# Altium schematic symbol library Reboostv2.SCHLIB: 64 symbols
Pins are listed as number, name and electrical type; pins without a type are passive.

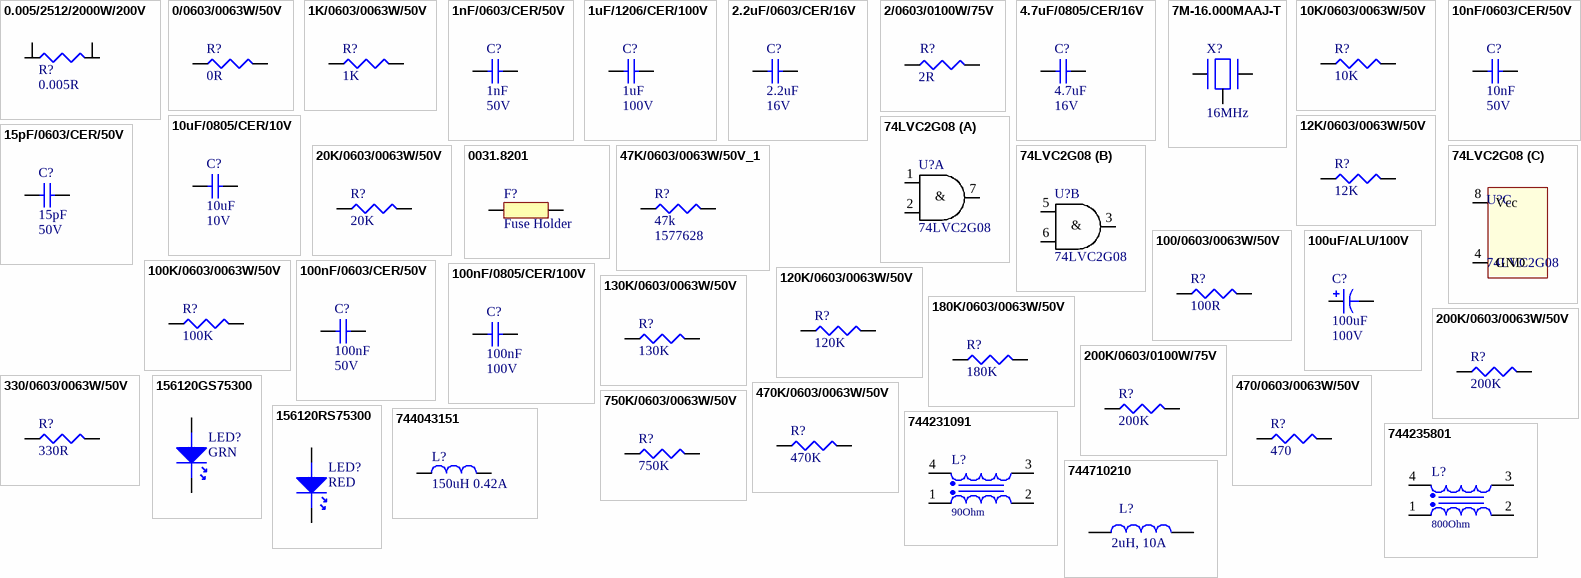
[diagram p0: symbols 0.005/2512/2000W/200V to 744710210]

## 0.005/2512/2000W/200V
designator R?, comment 0.005R
Resistor, 0.005R, 1%, 2W, 50PPM; Brand: OHMITE; Brand Number: FC4L64R005FER; Case Style: 2512; Voltage Rating: 200V; Order Code Supplier: 2363991; Power Rating: 2W; Price: 3,07; Resistance: 0.005R; Supplier: Farnell; Temperature Coefficient: ± 50PPM; Temperature Range: -55°C to +170°C; Manufacturer: OHMITE; Manufacturer Part Number: FC4L64R005FER
footprint 2512-L-4T
pins: 1, 2, 3, 4

## 0/0603/0063W/50V
designator R?, comment 0R
Resistor, 0R, 0.1%, 0.063W, 50V, 200PPM, 0603; Brand: VISHAY DRALORIC; Brand Number: CRCW06030000Z0EA; Case Style: 0603; Order Code Supplier: 2122112; Power Rating: 0.063W; Price: 0,043; Resistance: 0R; Supplier: Farnell; Temperature Coefficient: ± 200PPM; Temperature Range: -55°C to +125°C; Voltage Rating: 50V; Manufacturer: VISHAY DRALORIC; Manufacturer Part Number: CRCW06030000Z0EA
footprint 0603
pins: 1, 2

## 1K/0603/0063W/50V
designator R?, comment 1K
Resistor, 1K, 1%, 0.063W, 50V, 100PPM, 0603; Brand: VISHAY DRALORIC; Brand Number: CRCW06031K00FKEA; Case Style: 0603; Order Code Supplier: 2122366; Power Rating: 0.063W; Price: 0,039; Resistance: 1K; Supplier: Farnell; Temperature Coefficient: ± 100PPM; Temperature Range: -55°C to +125°C; Voltage Rating: 50V; Manufacturer: VISHAY DRALORIC; Manufacturer Part Number: CRCW06031K00FKEA
footprint 0603
pins: 1, 2

## 1nF/0603/CER/50V
designator C?, comment 1nF  Voltage Rating: 50V
Capacitor, 1nF, 50V, X7R; Capacitance Tolerance: ± 10%; Capacitor Case Style: 0603; Brand Number: C0603C102K5RACTU; Brand: KEMET; Dielectric Characteristic: X7R; Capacitance: 1nF; Temperature Range: -55°C to +125°C; Price: 0,011; Order Code Supplier: 1414608; Supplier: Farnell; Manufacturer: KEMET; Manufacturer Part Number: C0603C102K5RACTU
footprint C0603
pins: 1, 2

## 1uF/1206/CER/100V
designator C?, comment 1uF  Voltage Rating: 100V
Capacitor, 1uF, 100V, X7R; Capacitance Tolerance: ± 10%; Capacitor Case Style: 1206; Brand Number: 12061C105K4Z2A; Brand: AVX; Dielectric Characteristic: X7R; Capacitance: 1uF; Temperature Range: -55°C to +125°C; Price: 0,52; Order Code Supplier: 1833855; Supplier: Farnell; Manufacturer: AVX; Manufacturer Part Number: 12061C105K4Z2A
footprint C-1206
pins: 1, 2

## 2.2uF/0603/CER/16V
designator C?, comment 2.2uF  Voltage Rating: 16V
Capacitor, 2.2uF, 16V, X5R; Capacitance Tolerance: +/- 10%; Capacitor Case Style: 0603; Brand Number: GRM188R61C225KE15D; Brand: MURATA; Dielectric Characteristic: X5R; Capacitance: 2.2uF; Temperature Range: -55°C to 85°C; Price: 0,077; Order Code Supplier: 1735526; Supplier: Farnell; Manufacturer: MURATA; Manufacturer Part Number: GRM188R61C225KE15D
footprint C0603
pins: 1, 2

## 2/0603/0100W/75V
designator R?, comment 2R
Resistor, 2R, 5%, 0.1W, 75V, 200PPM, 0603; Brand: PANASONIC; Brand Number: ERJ3GEYJ2R0V; Case Style: 0603; Order Code Supplier: 2059531; Power Rating: 0.1W; Price: 0,009; Resistance: 2R; Supplier: Farnell; Temperature Coefficient: ± 200PPM; Temperature Range: -55°C to +125°C; Voltage Rating: 75V; Manufacturer: PANASONIC; Manufacturer Part Number: ERJ3GEYJ2R0V
footprint 0603
pins: 1, 2

## 4.7uF/0805/CER/16V
designator C?, comment 4.7uF  Voltage Rating: 16V
Capacitor, 4.7uF, 16V, X7R; Capacitance Tolerance: ± 10%; Capacitor Case Style: 0805; Brand Number: GRM21BR71C475KA73L; Brand: MURATA; Dielectric Characteristic: X7R; Capacitance: 4.7uF; Temperature Range: -55°C to +125°C; Price: 0,26; Order Code Supplier: 1797015; Supplier: Farnell; Manufacturer: MURATA; Manufacturer Part Number: GRM21BR71C475KA73L
footprint C-0805
pins: 1, 2

## 7M-16.000MAAJ-T
designator X?, comment 16MHz
CRYSTAL, 16MHz,18PF CL, 3.2X2.5MM SMT; Brand Number: 7M-16.000MAAJ-T; Brand: TXC; Order Code Supplier: 1842060; Price: 1,45; Supplier: Farnell; Manufacturer: TXC; Manufacturer Part Number: 7M-16.000MAAJ-T
footprint 7M
pins: 0 (power), 1, 2

## 10K/0603/0063W/50V
designator R?, comment 10K
Resistor, 10K, 1%, 0.063W, 50V, 100PPM, 0603; Brand: VISHAY DRALORIC; Brand Number: CRCW060310K0FKEA; Case Style: 0603; Order Code Supplier: 2122493; Power Rating: 0.063W; Price: 0,038; Resistance: 10K; Supplier: Farnell; Temperature Coefficient: ± 100PPM; Temperature Range: -55°C to +125°C; Voltage Rating: 50V; Manufacturer: VISHAY DRALORIC; Manufacturer Part Number: CRCW060310K0FKEA
footprint 0603
pins: 1, 2

## 10nF/0603/CER/50V
designator C?, comment 10nF  Voltage Rating: 50V
Capacitor, 10nF, 50V, X7R; Capacitance Tolerance: ± 10%; Capacitor Case Style: 0603; Brand Number: C0603C103K5RACTU; Brand: KEMET; Dielectric Characteristic: X7R; Capacitance: 10nF; Temperature Range: -55°C to +125°C; Price: 0,011; Order Code Supplier: 1414609; Supplier: Farnell; Manufacturer: KEMET; Manufacturer Part Number: C0603C103K5RACTU
footprint C0603
pins: 1, 2

## 10uF/0805/CER/10V
designator C?, comment 10uF  Voltage Rating: 10V
Capacitor, 10uF, 10V, X7R; Capacitance Tolerance: ± 10%; Capacitor Case Style: 0805; Brand Number: GRM21BR71A106KE51L; Brand: MURATA; Dielectric Characteristic: X7R; Capacitance: 10uF; Temperature Range: -55°C to +125°C; Price: 0,36; Order Code Supplier: 1828828; Supplier: Farnell; Manufacturer: MURATA; Manufacturer Part Number: GRM21BR71A106KE51L
footprint C-0805
pins: 1, 2

## 12K/0603/0063W/50V
designator R?, comment 12K
Resistor, 12K, 1%, 0.063W, 50V, 100PPM, 0603; Brand: VISHAY DRALORIC; Brand Number: CRCW060312K0FKEA; Case Style: 0603; Order Code Supplier: 2122501; Power Rating: 0.063W; Price: 0,0006; Resistance: 12K; Supplier: Farnell; Temperature Coefficient: ± 1%; Temperature Range: -55°C to +125°C; Voltage Rating: 50V; Manufacturer: VISHAY DRALORIC; Manufacturer Part Number: CRCW060312K0FKEA
footprint 0603
pins: 1, 2

## 15pF/0603/CER/50V
designator C?, comment 15pF  Voltage Rating: 50V
Capacitor, 15pF, 50V, C0G / NP0; Capacitance Tolerance: ± 5%; Capacitor Case Style: 0603; Brand Number: MCCA000194; Brand: MULTICOMP; Dielectric Characteristic: C0G / NP0; Capacitance: 15pF; Temperature Range: -55°C to +125°C; Price: 0,009; Order Code Supplier: 1759055; Supplier: Farnell; Manufacturer: MULTICOMP; Manufacturer Part Number: MCCA000194
footprint C0603
pins: 1, 2

## 20K/0603/0063W/50V
designator R?, comment 20K
Resistor, 20K, 1%, 0.063W, 50V, 100PPM, 0603; Brand: VISHAY DRALORIC; Brand Number: CRCW060320K0FKEA; Case Style: 0603; Order Code Supplier: 2122528; Power Rating: 0.063W; Price: 0,038; Resistance: 20K; Supplier: Farnell; Temperature Coefficient: ± 100PPM; Temperature Range: -55°C to +125°C; Voltage Rating: 50V; Manufacturer: VISHAY DRALORIC; Manufacturer Part Number: CRCW060320K0FKEA
footprint 0603
pins: 1, 2

## 0031.8201
designator F?, comment Fuse Holder
Fuse, Holder, 10A, 250V, T:-40°C +85°C; Brand: SCHURTER; Brand Number: 0031.8201; Price: 0,43; Order Code Supplier: 1162740; Supplier: Farnell; Manufacturer: SCHURTER; Manufacturer Part Number: 0031.8201
footprint Fuse5x20TH
pins: 1, 2

## 47K/0603/0063W/50V_1
designator R?, comment 47k  Supplier Part Number 1: 1577628
Resistor, 47K, 0.1%, 0.063W, 50V, 100PPM, 0603; Manufacturer: PANASONIC; Manufacturer Part Number: ERA3AEB473V; Case Style: 0603; Order Code Supplier: ERA3AEB473V; Power Rating: 0.063W; Resistance: 47k; Supplier: Farnell; Temperature Coefficient: ± 100PPM; Temperature Range: -55°C to +125°C; Voltage Rating: 50V; Supplier 1: Farnell
footprint 0603
pins: 1, 2

## 74LVC2G08
designator U?
Dual 2-input AND gate; Manufacturer: Nexperia; Manufacturer Part Number: 74LVC2G08DP,125; Supplier: Mouser; Order Code Supplier: 771-74LVC2G08DP-G
footprint TSSOP8 (TSOP, 8-Leads, Body 3,00x3,00mm, Pitch 0,65mm, IPC Medium Density)
part A pins: 1 A, 2 B, 7 Y
part B pins: 3 Y, 5 A, 6 B
part C pins: 4 GND, 8 Vcc
part A text: &
part B text: &

## 100/0603/0063W/50V
designator R?, comment 100R
Resistor, 100R, 1%, 0.063W, 50V, 200PPM, 0603; Brand: VISHAY DRALORIC; Brand Number: CRCW0603100RFKEA; Case Style: 0603; Order Code Supplier: 2122239; Power Rating: 0.063W; Price: 0,007; Resistance: 100R; Supplier: Farnell; Temperature Coefficient: ± 200PPM; Temperature Range: -55°C to +125°C; Voltage Rating: 50V; Manufacturer: VISHAY DRALORIC; Manufacturer Part Number: CRCW0603100RFKEA
footprint 0603
pins: 1, 2

## 100K/0603/0063W/50V
designator R?, comment 100K
Resistor, 100K, 1%, 0.063W, 50V, 100PPM, 0603; Brand: VISHAY DRALORIC; Brand Number: CRCW0603100KFKEA; Case Style: 0603; Order Code Supplier: 2122619; Power Rating: 0.063W; Price: 0,039; Resistance: 100K; Supplier: Farnell; Temperature Coefficient: ± 100PPM; Temperature Range: -55°C to +125°C; Voltage Rating: 50V; Manufacturer: VISHAY DRALORIC; Manufacturer Part Number: CRCW0603100KFKEA
footprint 0603
pins: 1, 2

## 100nF/0603/CER/50V
designator C?, comment 100nF  Voltage Rating: 50V
Capacitor, 100nF, 50V, X7R; Capacitance Tolerance: ± 10%; Capacitor Case Style: 0603; Brand Number: MCCA000255; Brand: MULTICOMP; Dielectric Characteristic: X7R; Capacitance: 100nF; Temperature Range: -55°C to +125°C; Price: 0,008; Order Code Supplier: 1759122RL; Supplier: Farnell; Manufacturer: MULTICOMP; Manufacturer Part Number: MCCA000255
footprint C0603
pins: 1, 2

## 100nF/0805/CER/100V
designator C?, comment 100nF  Voltage Rating: 100V
Capacitor, 100nF, 100V, X7R; Capacitance Tolerance: ± 10%; Capacitor Case Style: 0805; Brand Number: C0805C104K1RACTU; Brand: KEMET; Dielectric Characteristic: X7R; Capacitance: 100nF; Temperature Range: -55°C to +125°C; Price: 0,096; Order Code Supplier: 1650862; Supplier: Farnell; Manufacturer: KEMET; Manufacturer Part Number: C0805C104K1RACTU
footprint C-0805
pins: 1, 2

## 100uF/ALU/100V
designator C?, comment 100uF  Voltage Rating: 100V
Aluminum Electrolytic Capacitor, 100uF, 100V; Manufacturer: United Chemi-Con; Manufacturer Part Number: EKYB101ELL101MJ20S; Capacitance Tolerance: ± 20%; Capacitor Case Style: Radial Leaded 10 x 20; Dielectric Characteristic: *; Capacitance: 100uF; Temperature Range: -40°C to +85°C; Supplier 1: Mouser; Supplier Part Number 1: 661-EKYB101E101MJ20S
footprint WCAP-ATUL_10x20x5x0.6 (Polarized capacitors, Aluminum Electrolytic Capacitors, 2-Leads, Body 10x20x5x0.6)
pins: 1, 2

## 120K/0603/0063W/50V
designator R?, comment 120K
Resistor, 120K, 1%, 0.063W, 50V, 100PPM, 0603; Brand: VISHAY DRALORIC; Brand Number: CRCW0603120KFKEA; Case Style: 0603; Order Code Supplier: 2122628; Power Rating: 0.063W; Price: 0,038; Resistance: 120K; Supplier: Farnell; Temperature Coefficient: ± 100PPM; Temperature Range: -55°C to +125°C; Voltage Rating: 50V; Manufacturer: VISHAY DRALORIC; Manufacturer Part Number: CRCW0603120KFKEA
footprint 0603
pins: 1, 2

## 130K/0603/0063W/50V
designator R?, comment 130K
Resistor, 130K, 1%, 0.063W, 50V, 100PPM, 0603; Brand: VISHAY DRALORIC; Brand Number: CRCW0603130KFKEA; Case Style: 0603; Order Code Supplier: 2122632; Power Rating: 0.063W; Price: 0,017; Resistance: 130K; Supplier: Farnell; Temperature Coefficient: ± 100PPM; Temperature Range: -55°C to +125°C; Voltage Rating: 50V; Manufacturer: VISHAY DRALORIC; Manufacturer Part Number: CRCW0603130KFKEA
footprint 0603
pins: 1, 2

## 180K/0603/0063W/50V
designator R?, comment 180K
Resistor, 180K, 1%, 0.063W, 50V, 100PPM, 0603; Brand: VISHAY DRALORIC; Brand Number: CRCW0603180KFKEA; Case Style: 0603; Order Code Supplier: 2122648; Power Rating: 0.063W; Price: 0,038; Resistance: 180K; Supplier: Farnell; Temperature Coefficient: ± 100PPM; Temperature Range: -55°C to +125°C; Voltage Rating: 50V; Manufacturer: VISHAY DRALORIC; Manufacturer Part Number: CRCW0603180KFKEA
footprint 0603
pins: 1, 2

## 200K/0603/0063W/50V
designator R?, comment 200K
Resistor, 200K, 1%, 0.063W, 50V, 100PPM, 0603; Brand: VISHAY DRALORIC; Brand Number: CRCW0603200KFKEA; Case Style: 0603; Order Code Supplier: 2122655; Power Rating: 0.063W; Price: 0,038; Resistance: 200K; Supplier: Farnell; Temperature Coefficient: ± 100PPM; Temperature Range: -55°C to +125°C; Voltage Rating: 50V; Manufacturer: VISHAY DRALORIC; Manufacturer Part Number: CRCW0603200KFKEA
footprint 0603
pins: 1, 2

## 200K/0603/0100W/75V
designator R?, comment 200K
Resistor, 200K, 1%, 0.1W, 75V, 100PPM, 0603; Brand: VISHAY DRALORIC; Brand Number: CRCW0603200KFKEA; Case Style: 0603; Order Code Supplier: 2122655; Power Rating: 0.1W; Price: 0,022; Resistance: 200K; Supplier: Farnell; Temperature Coefficient: ± 100PPM; Temperature Range: -55°C to +155°C; Voltage Rating: 75V; Manufacturer: VISHAY DRALORIC; Manufacturer Part Number: CRCW0603200KFKEA
footprint 0603
pins: 1, 2

## 330/0603/0063W/50V
designator R?, comment 330R
Resistor, 330R, 1%, 0.063W, 50V, 100PPM, 0603; Brand: VISHAY DRALORIC; Brand Number: CRCW0603330RFKEA; Case Style: 0603; Order Code Supplier: 2122302; Power Rating: 0.063W; Price: 0,038; Resistance: 330R; Supplier: Farnell; Temperature Coefficient: ± 100PPM; Temperature Range: -55°C to +125°C; Voltage Rating: 50V; Manufacturer: VISHAY DRALORIC; Manufacturer Part Number: CRCW0603330RFKEA
footprint 0603
pins: 1, 2

## 470/0603/0063W/50V
designator R?, comment 470
Resistor, 470, 1%, 0.063W, 50V, 100PPM, 0603; Brand: VISHAY DRALORIC; Brand Number: CRCW0603470RFKEA; Case Style: 0603; Order Code Supplier: 2122323; Power Rating: 0.063W; Price: 0,038; Resistance: 470; Supplier: Farnell; Temperature Coefficient: ± 100PPM; Temperature Range: -55°C to +125°C; Voltage Rating: 50V; Manufacturer: VISHAY DRALORIC; Manufacturer Part Number: CRCW0603470RFKEA
footprint 0603
pins: 1, 2

## 470K/0603/0063W/50V
designator R?, comment 470K
Resistor, 470K, 1%, 0.063W, 50V, 100PPM, 0603; Brand: VISHAY DRALORIC; Brand Number: CRCW0603470KFKEA; Case Style: 0603; Order Code Supplier: 2122703; Power Rating: 0.063W; Price: 0,038; Resistance: 470K; Supplier: Farnell; Temperature Coefficient: ± 100PPM; Temperature Range: -55°C to +125°C; Voltage Rating: 50V; Manufacturer: VISHAY DRALORIC; Manufacturer Part Number: CRCW0603470KFKEA
footprint 0603
pins: 1, 2

## 750K/0603/0063W/50V
designator R?, comment 750K
Resistor, 750K, 1%, 0.063W, 50V, 100PPM, 0603; Brand: VISHAY DRALORIC; Brand Number: CRCW0603750KFKEA; Case Style: 0603; Order Code Supplier: 2122731; Power Rating: 0.063W; Price: 0,038; Resistance: 750K; Supplier: Farnell; Temperature Coefficient: ± 100PPM; Temperature Range: -55°C to +125°C; Voltage Rating: 50V; Manufacturer: VISHAY DRALORIC; Manufacturer Part Number: CRCW0603750KFKEA
footprint 0603
pins: 1, 2

## 156120GS75300
designator LED?, comment GRN
LED, Reverse Mount, Cylindrical, Green; Manufacturer: Wurth Elektronik; Brand: Wurth; Brand Number: 156120GS75300; Order Code Supplier: 2322091; Supplier: Farnell; Price: 0,519; Manufacturer Part Number: 156120GS75300
footprint WL-SMRW_1206 cylindrical_Reverse use (SMD Mono-color Reverse mount LED, body 3.2x1.2mm)
pins: 1 K, 2 A

## 156120RS75300
designator LED?, comment RED
LED, Reverse Mount, Cylindrical, Red; Manufacturer: Wurth Elektronik; Brand: Wurth; Brand Number: 156120RS75300; Order Code Supplier: 2322094; Supplier: Farnell; Price: 0,519; Manufacturer Part Number: 156120RS75300
footprint WL-SMRW_1206 cylindrical_Reverse use (SMD Mono-color Reverse mount LED, body 3.2x1.2mm)
pins: 1 K, 2 A

## 744043151
designator L?, comment 150uH 0.42A
150UH, 30%, 0.42A; Manufacturer: Wurth Elektronik; Brand: Wurth; Brand Number: 744043151; Case Style: WE-TPC 4828; DC Resistance: 0.770ohm; DC Current: 0.42A; Inductance: 150uH; Order Code Supplier: 2082517; Price: 1,36; Q Factor: *; Supplier: Farnell; Temperature Range: -40°C to +125°C; Manufacturer Part Number: 744043151
footprint WE-TPC 4828, MH (SMD Inductor, 2-Leads, Body 4,8x4,8mm)
pins: 1, 2

## 744231091
designator L?, comment 90Ohm
WE-CNSW SMT Common Mode Line Filter, size 0805, 90Ohm, 0.37A, 50V; Manufacturer Part Number: 744231091; Manufacturer: Wurth Elektronik; DC Resistance max.: 0.3Ohm; Impedance Test Condition: 100MHz; Insulation Test Voltage: 125VAC; Winding Style: bifiliar; ComponentLink1Description: Manufacturer; ComponentLink1URL: http://www.we-online.de; ComponentLink2Description: Datasheet; ComponentLink2URL: https://www.we-online.com/catalog/datasheet/744231091.pdf; Operating Temperature: -40 to +125degC; Packaging: Tape and Reel; Published Date: April 2020; Rated Current: 0.37A; Size: 0805; Impedance: 90Ohm; Rated Voltage: 50V; Mounting Technology: SMT
footprint WE-CNSW_0805
pins: 1, 2, 3, 4

## 744235801
designator L?, comment 800Ohm
WE-CNSW SMT Common Mode Line Filter, size 1812, 800Ohm, 1A, 60V; Manufacturer Part Number: 744235801; Manufacturer: Wurth Elektronik; DC Resistance max.: 0.12Ohm; Impedance Test Condition: 100MHz; Insulation Test Voltage: 125VAC; Winding Style: bifiliar; ComponentLink1Description: Manufacturer; ComponentLink1URL: http://www.we-online.de; ComponentLink2Description: Datasheet; ComponentLink2URL: https://www.we-online.com/catalog/datasheet/744235801.pdf; Operating Temperature: -40 to +125degC; Packaging: Tape and Reel; Published Date: April 2020; Rated Current: 1A; Size: 1812; Impedance: 800Ohm; Rated Voltage: 60V; Mounting Technology: SMT
footprint WE-CNSW_1812
pins: 1, 2, 3, 4

## 744710210
designator L?, comment 2uH, 10A
WE-SD Rod Core Choke, 2uH, 10A; Manufacturer Part Number: 744710210; Manufacturer: Wurth Elektronik; DC Resistance: 3.8mOhm; ComponentLink1Description: Manufacturer; ComponentLink1URL: http://www.we-online.de; ComponentLink2Description: Datasheet; ComponentLink2URL: https://www.we-online.com/catalog/datasheet/744710210.pdf; Operating Temperature: -40 to +150degC; Packaging: Carton; Published Date: April 2020; Inductance: 2uH; Mounting Technology: THT; Rated Current: 10A
footprint 744710210
pins: 1, 2

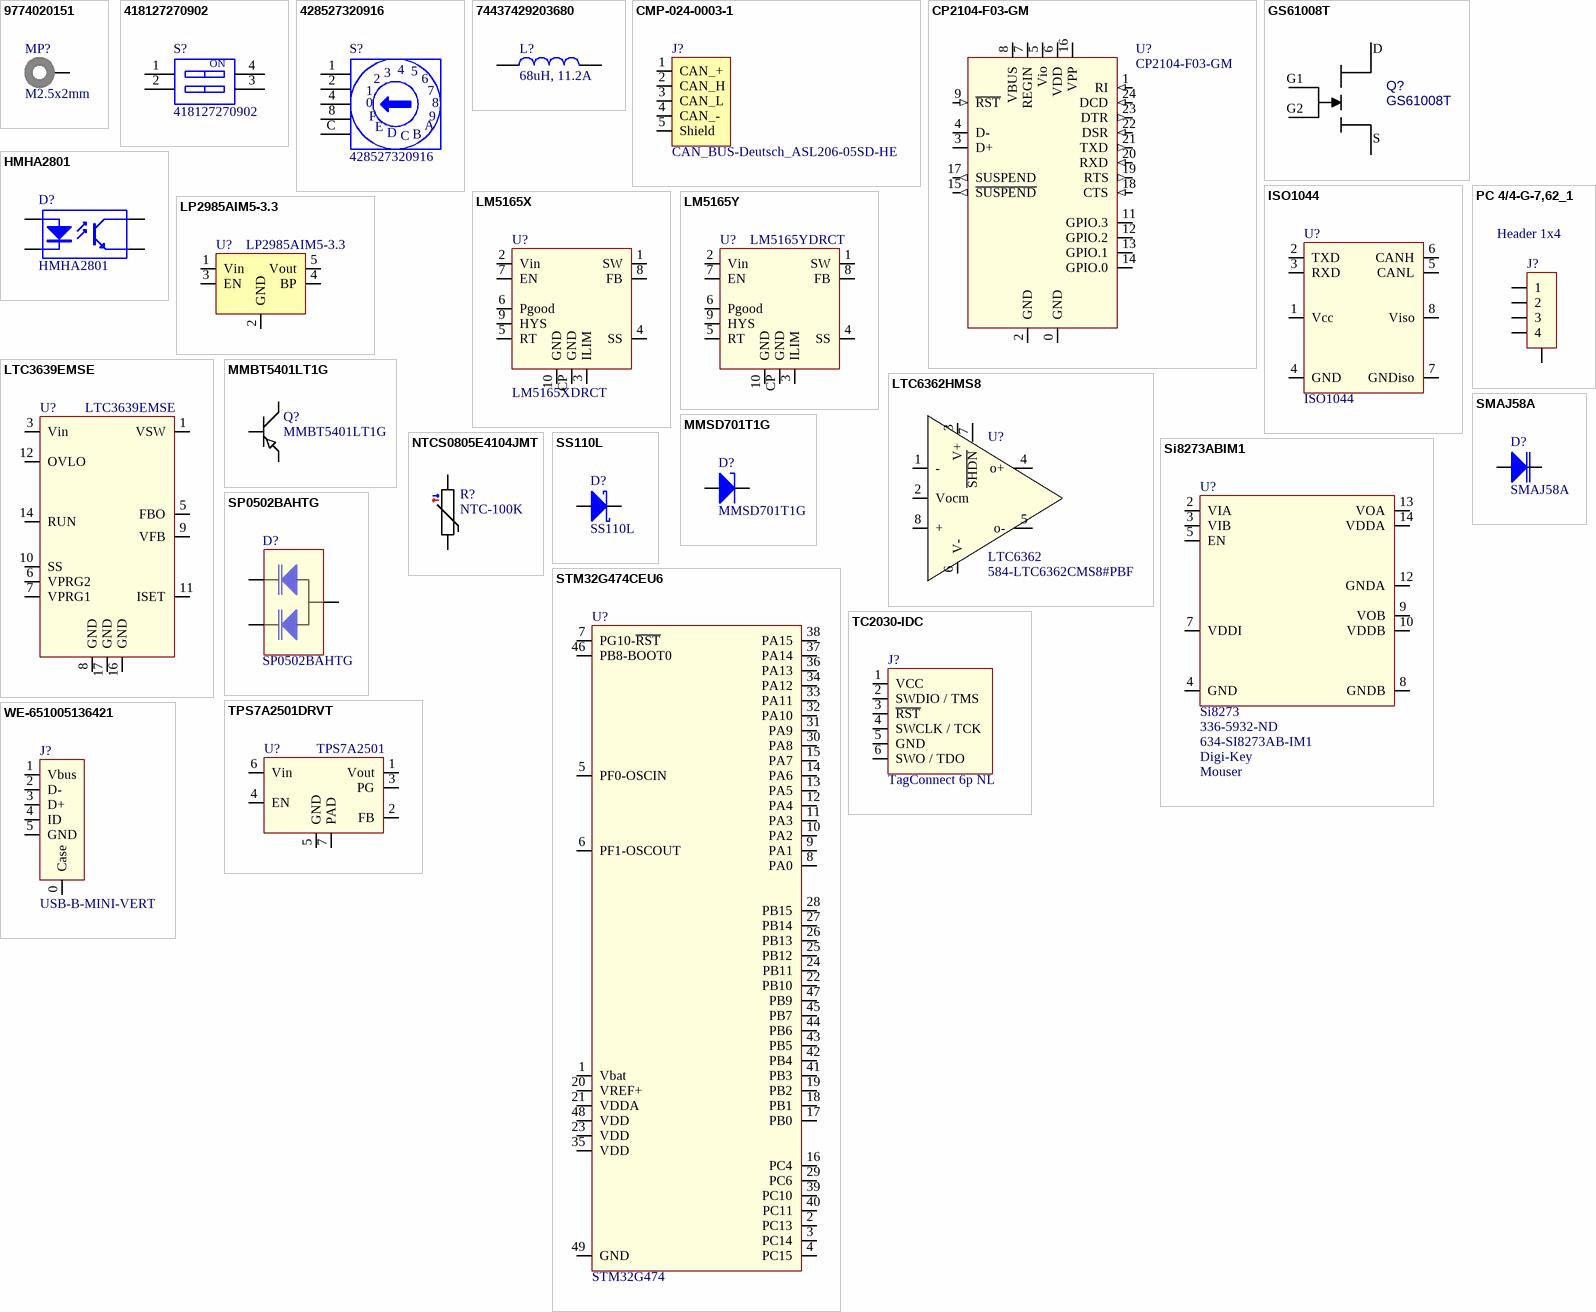
[diagram p1: symbols 9774020151 to WE-651005136421]

## 9774020151
designator MP?, comment M2.5x2mm
WA-SMSI SMT Steel Spacer, M2.5 Thread Internal, OD 5.1mm, M2.5x2mm; Manufacturer Part Number: 9774020151; Manufacturer: Wurth Elektronik; Inner Diameter: 3.5mm; Surface: Tin; ComponentLink1Description: Manufacturer; ComponentLink1URL: http://www.we-online.de; ComponentLink2Description: Datasheet; ComponentLink2URL: https://www.we-online.com/catalog/datasheet/9774020151.pdf; Mounting Technology: SMT; Packaging: Bulk; Length: 2mm; Inner Thread Length: -; Operating Temperature: -55 to +150degC; Outer Diameter: 5.1mm; Published Date: April 2020; Material: Steel; Thread: M2.5
footprint 9774020151
pins: 1, 1

## 418127270902
designator S?
WS-DITV Small Compact THT Dip Switch, Raised Actuator, pitch 2.54mm, 2p; Manufacturer: Wurth Elektronik; Operation Force: 600g; Pole Number: 2; Actuator Type: Raise Type; Circuit: SPST-NO; Rated Current Switching: 25mA; Rated Current Non-Switching: 100mA; Rated Voltage Non-Switching: 50VDC; Rated Voltage Switching: 24VDC; ComponentLink1Description: Manufacturer; ComponentLink1URL: http://www.we-online.de; ComponentLink2Description: Datasheet; ComponentLink2URL: https://katalog.we-online.com/em/datasheet/418127270902.pdf; Pitch: 2.54mm; Contact Material: Copper Alloy; Mounting Technology: THT; Operating Temperature: -40 to +85degC; Contact Plating: Gold; Packaging: Tube; Part Number: 418127270902; Publisher: Wurth Elektronik; Published Date: September 2019; Manufacturer Part Number: 418127270902
footprint 418127270902
pins: 1, 2, 3, 4
text: ON

## 428527320916
designator S?
WS-ROTV THT Rotary Switch with Arrow Type Actuator, 10x10mm, 16 positions; Manufacturer: Wurth Elektronik; Rated Current: 150mA; Cover Material: PA66; Position Number: 16; Washable: Yes; Rated Voltage: 24VDC; ComponentLink1Description: Manufacturer; ComponentLink1URL: http://www.we-online.de; ComponentLink2Description: Datasheet; ComponentLink2URL: https://katalog.we-online.com/em/datasheet/428527320916.pdf; Part Number: 428527320916; Publisher: Wurth Elektronik; Operating Temperature: -40 to +85degC; Packaging: Tube; Mounting Technology: THT; Published Date: September 2019; Size: 10x10mm; Terminal Plating: Gold; Actuator Type: Arrow Type; Manufacturer Part Number: 428527320916
footprint 42852732091x_16p
pins: 1, 2, 4, 8, C
text: 3; 5; 6; 7; 0; F; 9; E; A; D; B

## 74437429203680
designator L?, comment 68uH, 11.2A
WE-HCF SMT High Current Inductor, size 2920, 68uH, 11.2A, 24.42mOhm; Manufacturer: Wurth Elektronik; Manufacturer Part Number: 74437429203680; Self Resonant Frequency: 5.3MHz; DC Resistance typ.: 22.2mOhm; Saturation Current: 10.7A; ComponentLink1Description: Manufacturer; ComponentLink1URL: http://www.we-online.de; ComponentLink2Description: Datasheet; ComponentLink2URL: https://www.we-online.com/catalog/datasheet/74437429203680.pdf; Mounting Technology: SMT; Operating Temperature: -40 to +125degC; Packaging: Tray and Carton; Published Date: September 2020; DC Resistance max.: 24.42mOhm; Inductance: 68uH; Rated Current: 11.2A; Size: 2920
footprint WE-HCF_2920
pins: 1, 2

## CMP-024-0003-1
designator J?, comment CAN_BUS-Deutsch_ASL206-05SD-HE
Manufacturer: TE Connectivity; Design Item ID: CAN_BUS-Deutsch_ASL206-05SD-HE; Source: Deutsch_lib.SchLib; Manufacturer Part Number: ASL206-05SD-HE
footprint ASL206-05SD-HE
pins: 1 CAN_+, 2 CAN_H, 3 CAN_L, 4 CAN_-, 5 Shield

## CP2104-F03-GM
designator U?
USB to UART converter; Case Style: QFN24; Brand: Silicon Labs; Price: 1,65; Order Code Supplier: 757-4983; Brand Number: CP2104-F03-GM; Supplier: RS-Components; Manufacturer: Silicon Labs; Manufacturer Part Number: CP2104-F03-GM
footprint QFN24
pins: 0 GND (power), 1 RI (in), 2 GND (power), 3 D+ (io), 4 D- (io), 5 Vio, 6 VDD (power), 7 REGIN (power), 8 VBUS (power), 9 ~{RST} (in), 11 GPIO.3, 12 GPIO.2, 13 GPIO.1, 14 GPIO.0, 15 ~{SUSPEND} (out), 16 VPP (power), 17 SUSPEND (out), 18 CTS (in), 19 RTS (out), 20 RXD (in), 21 TXD (out), 22 DSR (in), 23 DTR (out), 24 DCD (in)

## GS61008T
designator Q?
GAN TRANS E-MODE 100V 90A TOP SIDE COOL; Manufacturer: GaN Systems; Manufacturer Part Number: GS61008T
footprint GS61008T (GAN TRANS EMODE 100V 90A TOP SIDE COOLED)
pins: D, G1, G2, S

## HMHA2801
designator D?
Optocoupler, Vout:80V, Iin:0.01A; Brand: FAIRCHILD SEMICONDUCTOR; Isolation Voltage: 2500V; Input Current: 0.01A; Output Voltage: 80V; Brand Number: HMHA2801; Case Style: *; Price: 0,28; Order Code Supplier: 1652504; Supplier: Farnell; Temperature Range: -55°C to +100°C; Manufacturer: FAIRCHILD SEMICONDUCTOR; Manufacturer Part Number: HMHA2801
footprint FSOP4
pins: 1 A1 "Anode", 2 K1 "Cathode", 3 E1 "Emitter", 4 C1 "Collector"

## ISO1044
designator U?
ISO1044 Isolated CAN FD Transceiver in Small Package; Manufacturer: Texas Instruments; Manufacturer Part Number: ISO1044BD; Supplier 1: Digi-Key; Supplier 2: Mouser; Supplier Part Number 1: 296-ISO1044DEVM-ND; Supplier Part Number 2: 595-ISO1044DEVM
footprint SO-8 (8-Pin Small Outline Integrated Circuit 1.27 mm Pitch, IPC Medium Density)
pins: 1 Vcc, 2 TXD, 3 RXD, 4 GND, 5 CANL, 6 CANH, 7 GNDiso, 8 Viso

## LM5165X
designator U?, comment LM5165XDRCT
Buck Vreg 150mA 5Vout 5-65Vin; Brand: Texas Instruments; Case Style: MSOP-8; Price: 3,70; Order Code Supplier: 595-LM5165XDRCT; Brand Number: LM5165XDRCT; Temperature Range: -40°C to +85°C; Supplier: Mouser; Manufacturer: Texas Instruments; Manufacturer Part Number: LM5165XDRCT
footprint PWSON10
pins: 1 SW, 2 Vin, 3 ILIM, 4 SS, 5 RT, 6 Pgood, 7 EN, 8 FB, 9 HYS, 10 GND, CP GND

## LM5165Y
designator U?, comment LM5165YDRCT
Buck Vreg 150mA 3V3 out 5-65Vin; Brand: Texas Instruments; Case Style: MSOP-8; Price: 3,70; Order Code Supplier: 595-LM5165YDRCT; Brand Number: LM5165YDRCT; Temperature Range: -40°C to +85°C; Supplier: Mouser; Manufacturer: Texas Instruments; Manufacturer Part Number: LM5165YDRCT
footprint PWSON10
pins: 1 SW, 2 Vin, 3 ILIM, 4 SS, 5 RT, 6 Pgood, 7 EN, 8 FB, 9 HYS, 10 GND, CP GND

## LP2985AIM5-3.3
designator U?
LDO, 0.3VDO, 3.3V, 0.15A, 1%; Brand: TEXAS INSTRUMENTS; Brand Number: LP2985AIM5-3.3/NOPB; Case Style: SOT-23-5; Vin-min: 3.6V; Vin-max: 5.5V; Current: 0.15A; Vout: 3.3V; Order Code Supplier: 1469134; Price: 0,73; Supplier: Farnell; Temperature Range: -40°C to +85°C; Manufacturer: TEXAS INSTRUMENTS; Manufacturer Part Number: LP2985AIM5-3.3/NOPB
footprint SOT-23-5
pins: 1 Vin, 2 GND, 3 EN, 4 BP, 5 Vout

## LTC3639EMSE
designator U?
High Efficiency, 150V 100mA Synchronous Step-Down Regulator; Manufacturer: Analog Devices Inc.; Manufacturer Part Number: LTC3639EMSE#PBF; ComponentLink1Description: New link; ComponentLink1URL: *
footprint MSE1612 (6-LEAD PLASTIC MSOP with 2 pins removed)
pins: 1 VSW, 3 Vin, 5 FBO, 6 VPRG2, 7 VPRG1, 8 GND, 9 VFB, 10 SS, 11 ISET, 12 OVLO, 14 RUN, 16 GND, 17 GND

## LTC6362HMS8
designator U?, comment LTC6362  Supplier Part Number 1: 584-LTC6362CMS8#PBF
Precision, Low Power Rail-to-Rail Input/Output Differential Op Amp; Manufacturer: Analog Devices Inc.; Manufacturer Part Number: LTC6362HMS8#PBF; Supplier 1: Mouser
footprint MSOP8 (Mini small outline package)
pins: 1 -, 2 Vocm, 3 V+, 4 o+, 5 o-, 6 V-, 7 ~{SHDN}, 8 +

## MMBT5401LT1G
designator Q?
Transistor, PNP, Vce:-150V, Vcb:-160V, Veb:-5V, Ic:-0,5A, Hfe:60 to 240; Brand: ON SEMICONDUCTOR; Case Style: SOT-23; Collector Current: -0.5A; Collector Emittor Voltage: 160V; Base Emittor Voltage: 6V; Brand Number: MMBT5401LT1G; Hfe: 60 to 240; Order Code Supplier: 1459108; Price: 0,041; Supplier: Farnell; Temperature Range: -55°C to +150°C; Transistor Polarity: PNP; Manufacturer: ON SEMICONDUCTOR; Manufacturer Part Number: MMBT5401LT1G
footprint SOT-23
pins: 1, 2, 3

## MMSD701T1G
designator D?
Diode Schottky, Vrrm: 70V, If: 0.2A, Vf: 0.5V; Manufacturer: ON SEMICONDUCTOR; Case Style: SOD-123; MPN: MMSD701T1G; Forward Current: 0.2A; Forward Voltage: 0.5V; Order Code Supplier: 1431102; Price: 0,115; Supplier: Farnell; Temperature Range: -55°C to +125°C; Vrrm: 70V; Manufacturer Part Number: MMSD701T1G
footprint SOD123 - B (ONSEMI version)
pins: 1 A, 2 K

## NTCS0805E4104JMT
designator R?, comment NTC-100K
NTC, 100K, 25°C, 0.5%, 0.210W, 0805; Manufacturer: VISHAY BC COMPONENTS; MPN: NTCS0805E4104JMT; Case Style: 0805; Order Code Supplier: 1187095; Power Rating: 0.210W; Price: 0,59; Resistance: 100K; Supplier: Farnell; Temperature Range: -55°C to +150°C; Type: NTC-100K; Manufacturer Part Number: NTCS0805E4104JMT
footprint R0805
pins: 1, 2

## PC 4/4-G-7,62_1
designator J?, comment Header 1x4
Header, Close Horizontal, 1x4, Male, 7.62mm, TH; Manufacturer: PHOENIX CONTACT; MPN: PC 4/4-G-7,62; Manufacturer Part Number: 1804810; Case Style: *; Order Code Supplier: 1792930; Pitch: 7.62mm; Price: 2,92; Supplier: Farnell
footprint PC 4/ 4-G-7,62
pins: 0, 1, 2, 3, 4

## Si8273ABIM1
designator U?, comment Si8273  Supplier Part Number 2: 336-5932-ND  Supplier Part Number 1: 634-SI8273AB-IM1  Supplier 2: Digi-Key  Supplier 1: Mouser
4 Amp ISOdriver with High Transient (dV/dt) Immunity; Manufacturer: Skyworks Solutions Inc.; MPN: SI8273AB-IM1; Manufacturer Part Number: SI8273AB-IM1
footprint DFN-14 (DFN-14-SILABS)
pins: 2 VIA, 3 VIB, 4 GND, 5 EN, 7 VDDI, 8 GNDB, 9 VOB, 10 VDDB, 12 GNDA, 13 VOA, 14 VDDA

## SMAJ58A
designator D?
Diode TVS, Vrwm: 58V, Vbr: 71.2V, Vc: 93.6V, Ippm: 4.3A; Manufacturer: MULTICOMP; Case Style: SMA; MPN: SMAJ58A; Breakdown Voltage: 71.2V; Clamping Voltage: 93.6V; Ippm: 4.3A; Order Code Supplier: 1579005; Price: 0,166; Supplier: Farnell; Temperature Range: -55°C to +150°C; Vrwm: 58V; Manufacturer Part Number: SMAJ58A
footprint SMA
pins: 1, 2

## SP0502BAHTG
designator D?
Diode TVS Dual, Vrwm: 5.5V Vc: 8V; Manufacturer: LITTLEFUSE; Case Style: SOT-23; MPN: SP0502BAHTG; Clamping Voltage: 8V; Order Code Supplier: 1827631; Price: 0,80; Supplier: Farnell; Temperature Range: -40°C to +125°C; Vrwm: 5.5V; Manufacturer Part Number: SP0502BAHTG
footprint SOT23
pins: A, K1, K2

## SS110L
designator D?
Diode Schottky, Vrrm: 100V, If: 1A, Vf: 0.9V; Manufacturer: TAIWAN SEMICONDUCTOR; Manufacturer Part Number: SS110L R3; Case Style: SMF; MPN: SS110L; Forward Current: 1A; Forward Voltage: 0.9V; Order Code Supplier: 1559156; Price: 0,191; Supplier: Farnell; Temperature Range: -55°C to +150°C; Vrrm: 100V
footprint SUB-SMA (Sub SMA)
pins: 1 A, 2 K

## STM32G474CEU6
designator U?, comment STM32G474
ARM MCU, STM32 Family STM32G4 Series Microcontrollers, ARM Cortex-M4F, 32bit, 170 MHz, 512 KB; Manufacturer: STMicroelectronics; MPN: STM32G474CEU6; Supplier 1: Digi-Key; Supplier 2: Farnell; Supplier Part Number 1: 497-STM32G474CEU6-ND; Supplier Part Number 2: 3132392; Manufacturer Part Number: STM32G474CEU6; Order Code Supplier: STM32G474CEU6
footprint QFN48 (QFN, 48-Leads, Body 7,00x6,95mm, Pitch 0,50mm, Thermal Pad 5,60x5,60mm, IPC Low Density)
pins: 1 Vbat, 2 PC13, 3 PC14, 4 PC15, 5 PF0-OSCIN, 6 PF1-OSCOUT, 7 PG10-~{RST}, 8 PA0, 9 PA1, 10 PA2, 11 PA3, 12 PA4, 13 PA5, 14 PA6, 15 PA7, 16 PC4, 17 PB0, 18 PB1, 19 PB2, 20 VREF+, 21 VDDA, 22 PB10, 23 VDD, 24 PB11, 25 PB12, 26 PB13, 27 PB14, 28 PB15, 29 PC6, 30 PA8, 31 PA9, 32 PA10, 33 PA11, 34 PA12, 35 VDD, 36 PA13, 37 PA14, 38 PA15, 39 PC10, 40 PC11, 41 PB3, 42 PB4, 43 PB5, 44 PB6, 45 PB7, 46 PB8-BOOT0, 47 PB9, 48 VDD, 49 GND

## TC2030-IDC
designator J?, comment TagConnect 6p NL  (no BOM)
“No Legs” 6-pin Plug-of-Nails™ Cable fitted with a 6-pin 0.1″ pitch ribbon connector.; Manufacturer: Tag-Connect LLC; Manufacturer Part Number: TC2030-IDC-ND; MPN: -
footprint TC2030-IDC-NL (TAG connect)
pins: 1 VCC, 2 SWDIO / TMS, 3 ~{RST}, 4 SWCLK / TCK, 5 GND, 6 SWO / TDO

## TPS7A2501DRVT
designator U?, comment TPS7A2501
TPS7A25 300-mA,18-V, Ultra-LowIQ, Low-DropoutLinearVoltageRegulatorWith Power-Good; Manufacturer: Texas Instruments; MPN: TPS7A2501DRVT; Supplier 1: Digi-Key; Supplier 2: Mouser; Supplier Part Number 1: 296-TPS7A2501DRVTCT-ND; Supplier Part Number 2: 595-TPS7A2501DRVT; Manufacturer Part Number: TPS7A2501DRVT
footprint WSON-6 (WSON, 6-Leads, Body 2,00x2,00mm,  TI)
pins: 1 Vout, 2 FB, 3 PG, 4 EN, 5 GND, 6 Vin, 7 PAD

## WE-651005136421
designator J?, comment USB-B-MINI-VERT
Connector, Usb B Mini, Vertical, TH, WR-COM; Manufacturer: Wurth Elektronik; MPN: 651005136421; Case Style: WR-COM; Order Code Supplier: 1841175; Pitch: *; Price: 3,37; Supplier: Farnell; Manufacturer Part Number: 651005136421
footprint USB-B-MINI-VERT
pins: 0 Case, 1 Vbus, 2 D-, 3 D+, 4 ID, 5 GND